# Altium footprint library клеммн.PcbLib: 7 footprints
Each footprint in its own frame and in the unit in brackets; x right, y up, seen from the top. Pads: shape width x height; smd on the part's side, far side on the other; paste and mask are expansions set on the pad; w line width, h text height; cw(c..) or ccw(c..) is an arc to the next point about the centre after c.
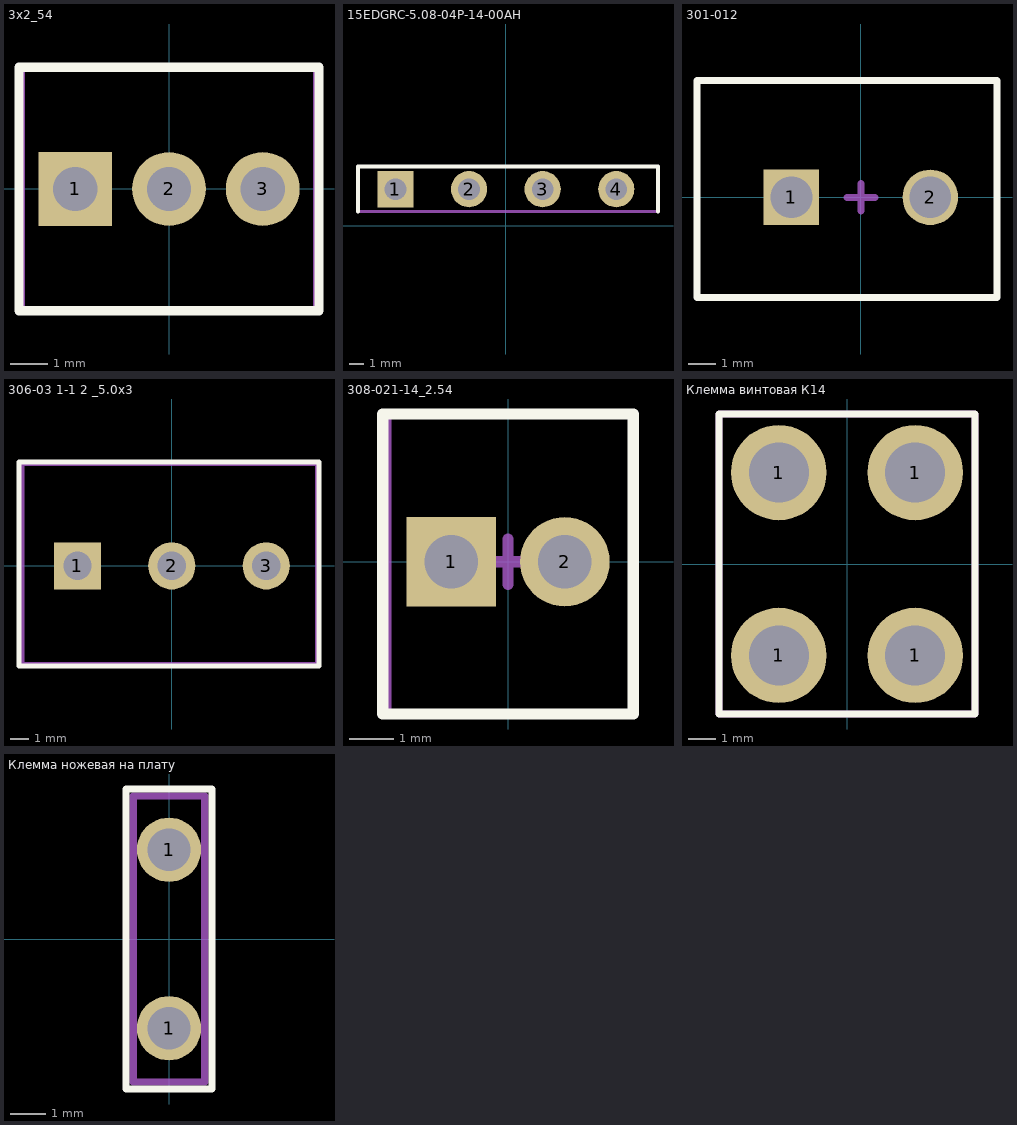
[diagram p0: the footprints below, top view; thin cyan lines are the x and y axes]

## 3x2_54 [mm]
pads (3):
  rect 2x2 hole 1.2: 1(-2.54,0)
  round 2 hole 1.2: 2(0,0) 3(2.54,0)
Top Overlay:
  lines w0.254: -4.064,-3.302 4.064,-3.302 4.064,3.3 -4.064,3.3 -4.064,-3.302
Top Assy:
  lines w0.2: -4,-3.3 4,-3.3 4,3.3 -4,3.3 -4,-3.3
  text ".Designator" at -3.6,-2 h1.52
3D body "Клеммник3х2_54.stp": height 10, standoff -3.4, extent -4.04,-3.25 4.04,3.25

## 15EDGRC-5.08-04P-14-00AH [mm]
pads (4):
  rect 2.5x2.5 hole 1.5: 1(-7.62,2.54)
  round 2.5 hole 1.5: 2(-2.54,2.54) 3(2.54,2.54) 4(7.62,2.54)
Top Overlay:
  lines w0.254: -10.2,1 -10.2,4.1 10.5,4.1 10.5,1
Top Assy:
  lines w0.2: -10.2,1 -10.2,4.1 10.5,4.1 10.5,1 -10.2,1
  text ".Designator" at -9.8,2 h1.52
3D body "15EDGRC-5.08-4.STEP": height 7.5, standoff -3.4, extent -10.06,-5.4 10.26,3.8

## 301-012 [mm]
pads (2):
  rect 2x2 hole 1.5: 1(-2.5,0)
  round 2 hole 1.5: 2(2.5,0)
Top Overlay:
  lines w0.254: -5.9,-3.6 -5.9,4.2 4.9,4.2 4.9,-3.6 -5.9,-3.6
Top Assy:
  lines w0.2: -5.9,-3.6 -5.9,4.2 4.9,4.2 4.9,-3.6 -5.9,-3.6
  text ".Designator" at -3.5,-0.1 h1.52
Mechanical 11:
  lines w0.254: -0.5,0 0.5,0 ; 0,-0.5 0,0.5
3D body "User Library-xy301a_5.STEP": height 10.1, standoff -4.3, extent -5.85,-3.5 4.85,4.1

## 306-03 1-1 2 _5.0x3 [mm]
pads (3):
  rect 2.5x2.5 hole 1.5: 1(-5,0)
  round 2.5 hole 1.5: 2(0,0) 3(5,0)
Top Overlay:
  lines w0.254: -8.1,-5.3 7.8,-5.3 7.8,5.5 -8.1,5.5 -8.1,-5.3
Top Assy:
  lines w0.2: -7.9,-5.2 -7.9,5.4 7.7,5.4 7.7,-5.2 -7.9,-5.2
  text ".Designator" at -7.5,-3.9 h1.52
3D body "DG128-5_0-03P-14.step": height 14.1, standoff -3.5, extent -7.8,-5 7.5,5.2

## 308-021-14_2.54 [mm]
pads (2):
  rect 2x2 hole 1.2: 1(-1.27,0)
  round 2 hole 1.2: 2(1.27,0)
Top Overlay:
  lines w0.254: -2.8,-3.4 2.8,-3.4 2.8,3.3 -2.8,3.3 -2.8,-3.4
Top Assy:
  lines w0.2: -2.7,-3.4 2.8,-3.4 2.8,3.3 -2.7,3.3 -2.7,-3.4
  text ".Designator" at -2.3,-2.1 h1.52
Mechanical 11:
  lines w0.254: -0.5,0 0.5,0 ; 0,-0.5 0,0.5
3D body "Клеммник 2х2_54.step": height 8.5, standoff -3.5, extent -2.77,-3.3 2.77,3.2

## Клемма винтовая К14 [mm]
pads (4):
  round 3.5 hole 2.2: 1(-2.5,-3.35) 1(-2.5,3.35) 1(2.5,-3.35) 1(2.5,3.35)
Top Overlay:
  lines w0.254: -4.7,-5.5 4.7,-5.5 4.7,5.5 -4.7,5.5 -4.7,-5.5
Top Assy:
  lines w0.254: -4.7,-5.5 -4.7,5.5 4.7,5.5 4.7,-5.5 -4.7,-5.5
  text ".Designator" at -3.4,-0.5 h1.52
3D body "Клемма-K14 Tin.step": height 9.71, standoff -4.6, extent -4,-4 4,4

## Клемма ножевая на плату [mm]
pads (2):
  round 1.8 hole 1.2: 1(0,-2.5) 1(0,2.5)
Top Overlay:
  lines w0.2: -1.2,-4.2 -1.2,4.2 1.2,4.2 1.2,-4.2 -1.2,-4.2
Top Assy:
  lines w0.2: -1,-4 1,-4 1,4 -1,4 -1,-4
  text ".Designator" at -0.6,-2.7 h1.52
3D body "Клемма ножевая на плату.STEP": height 10.6, standoff -2.9, extent -0.5,-4 0.5,4